# Altium integrated library C1206C104K2RACTU.IntLib: 1 symbol
Pins are listed as number, name and electrical type; pins without a type are passive.

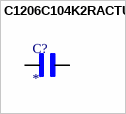
[diagram p0: symbol C1206C104K2RACTU]

## C1206C104K2RACTU
designator C?
1206 C 100nF Ceramic Multilayer Capacitor, 200 V, +125degC, X7R Dielec, +/-10% | KEMET C1206C104K2RACTU; SnapEDA_Link: https://www.snapeda.com/parts/C1206C104K2RACTU/KEMET/view-part/?ref=snap; Package: 1206-2 KEMET; Value: *; MF: KEMET; MP: C1206C104K2RACTU; Check_prices: https://www.snapeda.com/parts/C1206C104K2RACTU/KEMET/view-part/?ref=eda
footprint CAPC3216X110N
pins: 1, 2